# Altium integrated library HLK-10M05.IntLib: 1 symbol
Pins are listed as number, name and electrical type; pins without a type are passive.

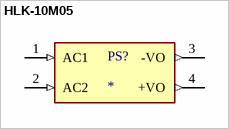
[diagram p0: symbol HLK-10M05]

## HLK-10M05
designator PS?
10W Ultra-Compact Power Module; MF: Hi-link; MP: HLK-10M05; SnapEDA_Link: https://www.snapeda.com/parts/HLK-10M05/Hi-link/view-part/?ref=snap; Package: Package; Value: *; Check_prices: https://www.snapeda.com/parts/HLK-10M05/Hi-link/view-part/?ref=eda
footprint CONV_HLK-10M05
pins: 1 AC1 (in), 2 AC2 (in), 3 -VO (out), 4 +VO (out)